# EAGLE library part 93C46 (library kmod-testing)
Not sure how standard the SOT23-6 pinout is.
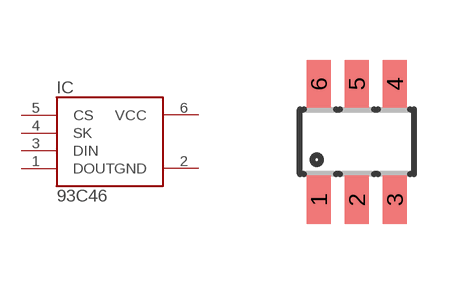
[diagram p3: symbol with the pads of SOT23-6L; footprint SOT23-6L]

Designator prefix IC

## 93C46SOT23-6  [SOT23-6L]
1  DOUT
2  GND  in
3  DIN  in
4  SK  in
5  CS  in
6  VCC  in

## Footprint SOT23-6L (pad centres in mm)
Small Outline Transistor SOT-23-6 Originally from ref-packages-longpads, but then modified according to http://ww1.microchip.com/downloads/en/DeviceDoc/20001749K.pdf#page=19: Made pads slightly wider (0.55->0.6mm) Spaced them slightly farther off-axis (1.3->1.45mm center offset)
smd 0.6 x 1.2: 1 -0.95,-1.45; 2 0,-1.45; 3 0.95,-1.45; 4 0.95,1.45; 5 0,1.45; 6 -0.95,1.45